# Altium footprint library fooprint.PcbLib: 10 footprints
Each footprint in its own frame and in the unit in brackets; x right, y up, seen from the top. Pads: shape width x height; smd on the part's side, far side on the other; paste and mask are expansions set on the pad; w line width, h text height; cw(c..) or ccw(c..) is an arc to the next point about the centre after c.
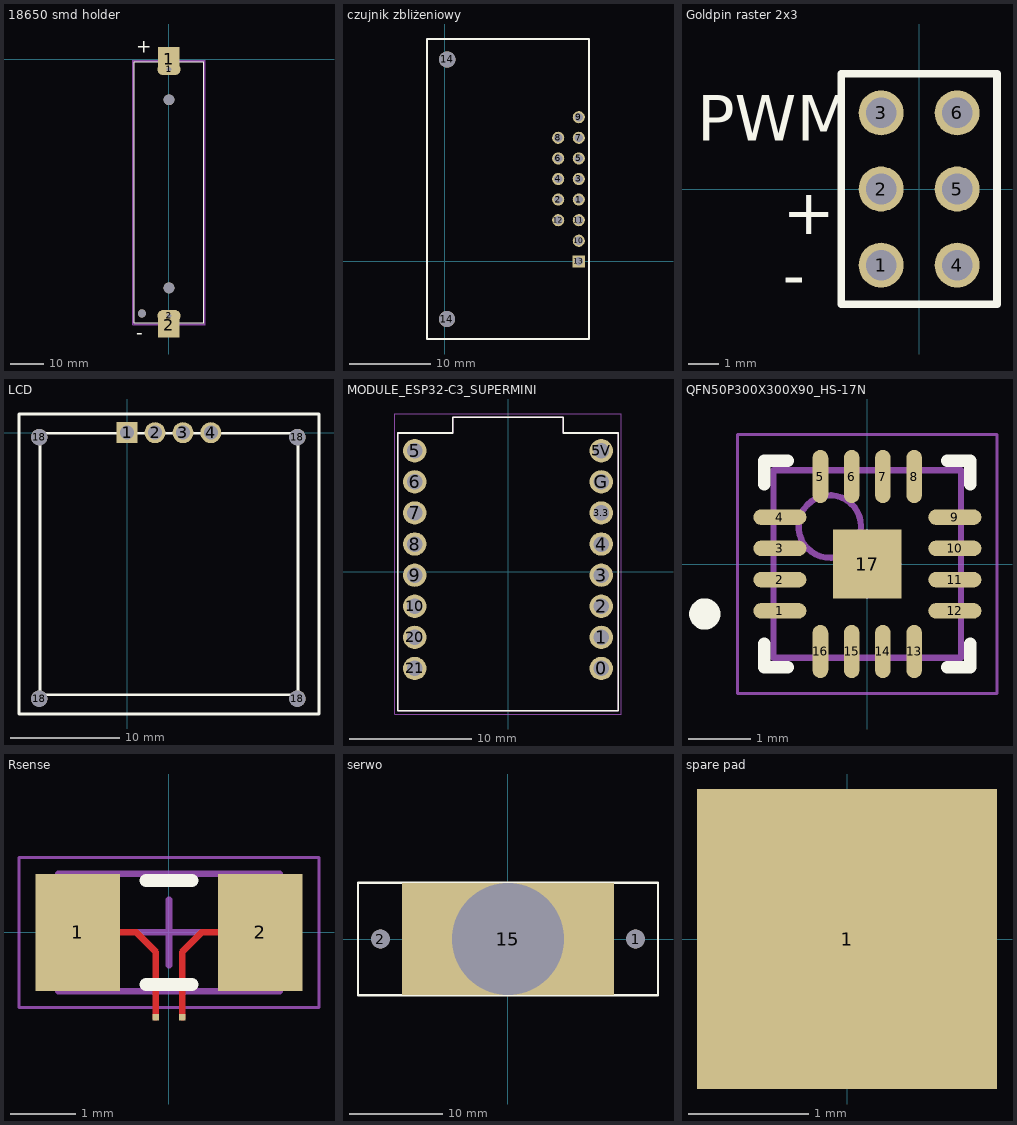
[diagram p0: the footprints below, top view; thin cyan lines are the x and y axes]

## 18650 smd holder [mm]
pads (7):
  rect 6.35x7.38 smd: 1(0,0) 2(0,-78.65)
  oval 6.88x3.44 hole 1.38 square: 1(0.02,-2.969) 2(0.02,-75.869)
  round 2.39 hole 2.39: ""(-8,-75.165)
  round 3.2 hole 3.2 unplated: ""(0.02,-67.589) ""(0.02,-11.979)
Top Overlay:
  lines w0.254: -10.325,-77.85 10.325,-77.85 10.325,-0.8 -10.325,-0.8 -10.325,-77.85
  text "+" at -9.6,2 h4
  text "-" at -9.6,-82.714 h4
Mechanical 13:
  lines w0.127: -10.43,-78.269 10.47,-78.269 10.47,-0.569 -10.43,-0.569 -10.43,-78.269
Mechanical 15:
  lines w0.05: -10.68,-78.519 10.72,-78.519 10.72,-0.319 -10.68,-0.319 -10.68,-78.519
3D body "Hold_18650-1p_smd.stp": height 16, standoff -3.3, extent -10.4,-82.82 10.4,3.62

## czujnik zbliżeniowy [mm]
pads (15):
  round 1.5 hole 1.02: 1(16.525,7.62) 2(13.985,7.62) 3(16.525,10.16) 4(13.985,10.16) 5(16.525,12.7) 6(13.985,12.7) 7(16.525,15.24) 8(13.985,15.24) 9(16.525,17.78) 10(16.525,2.54) 11(16.525,5.08) 12(13.985,5.08)
  rect 1.5x1.5 hole 1.02: 13(16.525,0)
  round 2 hole 2: 14(0.267,-7.114) 14(0.3,24.9)
Top Overlay:
  lines w0.254: -2.205,-9.575 17.795,-9.575 17.795,27.425 -2.205,27.425 -2.205,-9.575
Bottom Overlay:
  circle w0.254: c0.275,-7.11 r1
  circle w0.254: c0.285,24.89 r1
3D body "qtr-hd-09x.step": height 2.53, standoff 0.01, extent -2.205,-9.575 17.795,27.425

## Goldpin raster 2x3 [mm]
pads (6):
  round 1.5 hole 1.02: 1(-1.27,-2.54) 2(-1.27,0) 3(-1.27,2.54) 4(1.27,-2.54) 5(1.27,0) 6(1.27,2.54)
Top Overlay:
  lines w0.254: -2.6,-3.85 2.6,-3.85 2.6,3.85 -2.6,3.85 -2.6,-3.85
  text "-" at -4.554,-3.621 h1.52
  text "+" at -4.554,-1.511 h1.52
  text "PWM" at -7.416,1.614 h1.52
3D body "2x3 Male Pin Header Angle.STEP": height 5.01, standoff -2.99, extent -1.56,-3.875 13.34,3.75

## LCD [mm]
pads (8):
  rect 1.905x1.905 hole 1.27: 1(0,0)
  round 1.905 hole 1.27: 2(2.54,0) 3(5.08,0) 4(7.62,0)
  round 1.5 hole 1.5: 18(-8,-24.2) 18(-8,-0.4) 18(15.5,-24.2) 18(15.5,-0.4)
Top Overlay:
  lines w0.254: -9.84,-25.6 17.46,-25.6 17.46,1.7 -9.84,1.7 -9.84,-25.6 ; -7.94,-23.85 15.56,-23.85 15.56,-0.05 -7.94,-0.05 -7.94,-23.85
3D body "Pantalla OLED 0.96'' 128x64.stp": height 11.01, standoff 0.01, extent -10.39,-25.65 18.01,1.75

## MODULE_ESP32-C3_SUPERMINI [mm]
height 4.2
pads (16):
  round 1.905 hole 1.27: 0(7.62,-7.88) 1(7.62,-5.34) 2(7.62,-2.8) 3(7.62,-0.26) 3.3(7.62,4.82) 4(7.62,2.28) 5(-7.62,9.9) 5V(7.62,9.9) 6(-7.62,7.36) 7(-7.62,4.82) 8(-7.62,2.28) 9(-7.62,-0.26) 10(-7.62,-2.8) 20(-7.62,-5.34) 21(-7.62,-7.88) G(7.62,7.36)
Top Overlay:
  lines w0.127: -9,-11.35 -9,11.35 -4.5,11.35 -4.5,12.65 4.5,12.65 4.5,11.35 9,11.35 9,-11.35 -9,-11.35
Mechanical 13:
  lines w0.127: -9,-11.35 -9,11.35 -4.5,11.35 -4.5,12.65 4.5,12.65 4.5,11.35 9,11.35 9,-11.35 -9,-11.35
Mechanical 15:
  lines w0.05: -9.25,-11.6 -9.25,12.9 9.25,12.9 9.25,-11.6 -9.25,-11.6
3D body "ESP32-C3 supermini v5.step": height 4.11, standoff -0.09, extent -8.775,-11.303 9.029,12.697

## PAC [mm]

## QFN50P300X300X90_HS-17N [mm] "QFN, 16-Leads, Body 3,00x3,00mm, Pitch 0,50mm, Thermal Pad 1,10x1,10mm, IPC Medium Density"
height 0.9
pads (17):
  oval 0.85x0.25 smd: 1(-1.4,-0.75) 2(-1.4,-0.25) 3(-1.4,0.25) 4(-1.4,0.75) 9(1.4,0.75) 10(1.4,0.25) 11(1.4,-0.25) 12(1.4,-0.75)
  oval 0.25x0.85 smd: 5(-0.75,1.4) 6(-0.25,1.4) 7(0.25,1.4) 8(0.75,1.4) 13(0.75,-1.4) 14(0.25,-1.4) 15(-0.25,-1.4) 16(-0.75,-1.4)
  rect 1.1x1.1 smd: 17(0,0)
Top Overlay:
  circle w0.25: c-2.6,-0.8 r0.125
  lines w0.2: -1.65,-1.275 -1.65,-1.65 -1.275,-1.65 ; -1.65,1.275 -1.65,1.65 -1.275,1.65 ; 1.275,-1.65 1.65,-1.65 1.65,-1.275 ; 1.275,1.65 1.65,1.65 1.65,1.275
Mechanical 13:
  circle w0.1: c-0.6,0.6 r0.5
  lines w0.1: -1.5,-1.5 -1.5,1.5 1.5,1.5 1.5,-1.5 -1.5,-1.5
Mechanical 15:
  lines w0.05: -2.075,-2.075 -2.075,2.075 2.075,2.075 2.075,-2.075 -2.075,-2.075
  lines w0.1: -0.5,0 0.5,0 ; 0,-0.5 0,0.5
3D body "QFN50P300X300X90_HS-17N.step": height 0.9, standoff 0, extent -1.501,-1.501 1.501,1.501

## Rsense [mm]
pads (4):
  rect 1.3x1.8 smd: 1(-1.4,0) 2(1.4,0)
  rect 0.1x0.1 all layers, no hole: 3(-0.2,-1.3) 4(0.2,-1.3)
Top Layer:
  lines w0.1: -0.9,0 -0.5,0 -0.2,-0.3 -0.2,-1.3 ; 0.2,-1.3 0.2,-0.3 0.5,0 0.9,0
Top Overlay:
  lines w0.2: -0.35,-0.8 0.35,-0.8 ; -0.35,0.8 0.35,0.8
Top 3D Body:
  lines w0.1: -1.7,-0.9 -1.7,0.9 1.7,0.9 1.7,-0.9 -1.7,-0.9
Mechanical 15:
  lines w0.05: -2.3,-1.15 -2.3,1.15 2.3,1.15 2.3,-1.15 -2.3,-1.15
  lines w0.1: -0.5,0 0.5,0 ; 0,-0.5 0,0.5
3D body: height 0.7, standoff 0, extent -1.2,-0.9 1.2,0.9
3D body: height 0.7, standoff 0, extent -1.7,-0.9 -1.2,0.9
3D body: height 0.7, standoff 0, extent 1.2,-0.9 1.7,0.9

## serwo [mm]
pads (3):
  round 2 hole 2: 1(13.65,0) 2(-13.65,0)
  rect 22.7x12 hole 12 square: 15(0,0)
Top Overlay:
  lines w0.254: -16.05,-6 16.05,-6 16.05,6 -16.05,6 -16.05,-6
3D body "FS09R_Servo_Motor_s.SLDPRT": height 22.81, standoff -7.19, extent -16.125,-6.15 16.125,6.15

## spare pad [mm]
pads (1):
  rect 2.5x2.5 smd: 1(0,0)